# EAGLE library part MCP2517FDT-H_SL (library MCP2517FDT-H_SL)
MICROCHIP - MCP2517FDT-H/SL - CAN CONTROLLER, 2MBPS, -40 TO 150DEG C Source: Datasheet <http://www.microchip.com/mymicrochip/filehandler.aspx?ddocname=en600327>
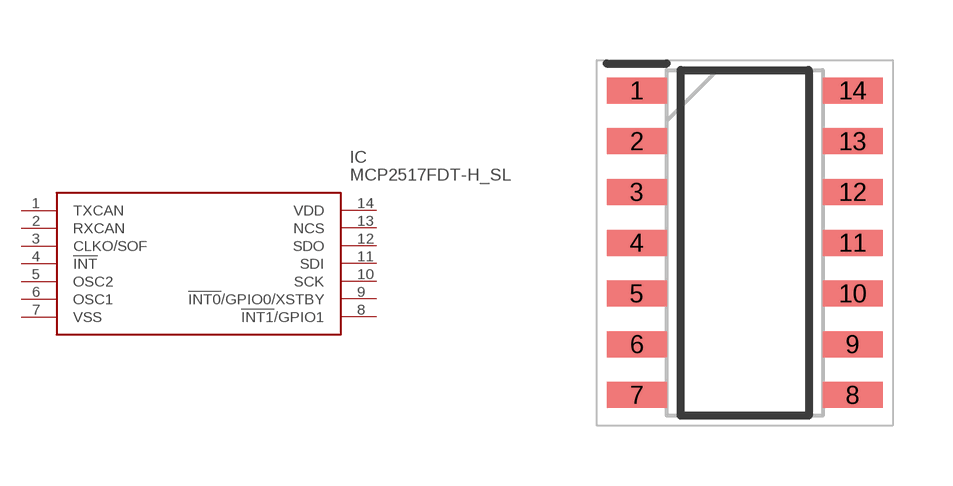
[diagram p0: symbol with the pads of SOIC127P600X175-14N; footprint SOIC127P600X175-14N]

Designator prefix IC

## MCP2517FDT-H_SL (Description: MICROCHIP - MCP2517FDT-H/SL - CAN CONTROLLER, 2MBPS, -40 TO 150DEG C; Height: 1.75mm; Manufacturer_Name: Microchip; Manufacturer_Part_Number: MCP2517FDT-H/SL; Mouser_Part_Number: 579-MCP2517FDT-H/SL; Mouser_Price-Stock: https://www.mouser.co.uk/ProductDetail/Microchip-Technology/MCP2517FDT-H-SL?qs=HXFqYaX1Q2yPNIcwI%252BWyxQ%3D%3D)  [SOIC127P600X175-14N]
1  TXCAN
2  RXCAN
3  CLKO/SOF
4  !INT
5  OSC2
6  OSC1
7  VSS
8  !INT1!/GPIO1
9  !INT0!/GPIO0/XSTBY
10  SCK
11  SDI
12  SDO
13  NCS
14  VDD

## Footprint SOIC127P600X175-14N (pad centres in mm)
MCP2517FDT-H/SL
smd 1.5 x 0.65: 1 -2.7,3.81; 2 -2.7,2.54; 3 -2.7,1.27; 4 -2.7,0; 5 -2.7,-1.27; 6 -2.7,-2.54; 7 -2.7,-3.81; 8 2.7,-3.81; 9 2.7,-2.54; 10 2.7,-1.27; 11 2.7,0; 12 2.7,1.27; 13 2.7,2.54; 14 2.7,3.81